# Altium schematic symbol library Inductors-Wirewound.SchLib: 7 symbols
Pins are listed as number, name and electrical type; pins without a type are passive.

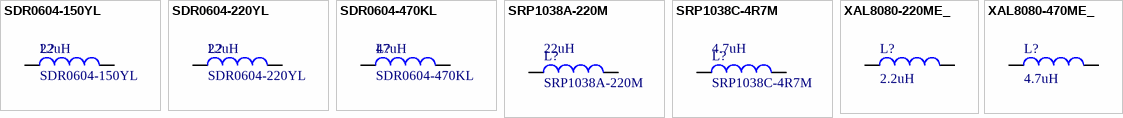
[diagram p0: symbols SDR0604-150YL to XAL8080-470ME_]

## SDR0604-150YL
designator L?  value 22uH
15uH 30% 1.3A 0604; Manufacturer: Bourns; PartNumber: SDR0604-150YL; PackageReference: SDR0604; Mounting Technology: Surface Mount; Current: 1.3A
simulation model INDUCTOR (Inductor)
signal-integrity model Inductor
footprint SDR0604
pins: 1, 2

## SDR0604-220YL
designator L?  value 22uH
22uH 30% 1.1A 0604; Manufacturer: Bourns; PartNumber: SDR0604-220YL; PackageReference: SDR0604; Mounting Technology: Surface Mount; Current: 1.1A
simulation model INDUCTOR (Inductor)
signal-integrity model Inductor
footprint SDR0604
pins: 1, 2

## SDR0604-470KL
designator L?  value 47uH
47uH 10% 0.72A 0604; Manufacturer: Bourns; PartNumber: SDR0604-470KL; PackageReference: SDR0604; Mounting Technology: Surface Mount; Current: 0.72A
simulation model INDUCTOR (Inductor)
signal-integrity model Inductor
footprint SDR0604
pins: 1, 2

## SRP1038A-220M
designator L?  value 22uH
22uH 20% 7A 1038; Manufacturer: Bourns; PartNumber: SRP1038A-220M; Mounting Technology: Surface Mount; PackageReference: SRP1038A; Current: 7A
simulation model INDUCTOR (Inductor)
signal-integrity model Inductor
footprint SRP1038A
pins: 1, 2

## SRP1038C-4R7M
designator L?  value 4.7uH
4.7uH 20% 13A 1038; Manufacturer: Bourns; PartNumber: SRP1038C-4R7M; Mounting Technology: Surface Mount; PackageReference: SRP1038C; Current: 13A
simulation model INDUCTOR (Inductor)
signal-integrity model Inductor
footprint SRP1038C
pins: 1, 2

## XAL8080-220ME_
designator L?  value 2.2uH
2.2uH 38A 4.08mOhms; PartNumber: XAL8080-270MED; Manufacturer: Coilcraft; Published: 8-Jun-2000; PackageReference: 0402-A; Publisher: Altium Limited; PackageDescription: Chip Inductor
simulation model INDUCTOR (Inductor)
signal-integrity model Inductor
footprint XAL8080
pins: 1, 2

## XAL8080-470ME_
designator L?  value 4.7uH
4.7uH 38A 4.08mOhms; PartNumber: XAL8080-470MED; Manufacturer: Coilcraft; Published: 8-Jun-2000; PackageReference: 0402-A; Publisher: Altium Limited; PackageDescription: Chip Inductor
simulation model INDUCTOR (Inductor)
signal-integrity model Inductor
footprint XAL8080
pins: 1, 2